# EAGLE library part PIN-HEADER-8PIN (library stutz-components-library)
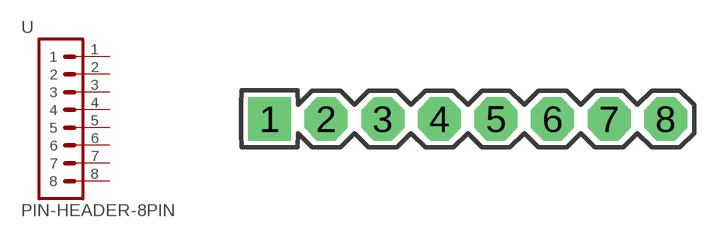
[diagram p22: symbol with the pads of PIN-HEADER-8PIN; footprint PIN-HEADER-8PIN]

Designator prefix -

## PIN-HEADER-8PIN  [PIN-HEADER-8PIN]
1  1  pas
2  2  pas
3  3  pas
4  4  pas
5  5  pas
6  6  pas
7  7  pas
8  8  pas

## Footprint PIN-HEADER-8PIN (pad centres in mm)
drill 1.016 pad 1.93 square: 1 -8.89,0
drill 1.016 pad 1.93 octagon: 2 -6.35,0; 3 -3.81,0; 4 -1.27,0; 5 1.27,0; 6 3.81,0; 7 6.35,0; 8 8.89,0